# EAGLE library part K66F_GPIO_2X10 (library Parts)
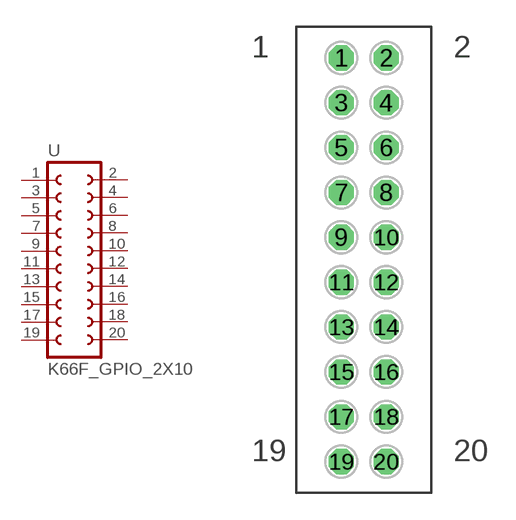
[diagram p4: symbol with the pads of K66F_GPIO_2X10; footprint K66F_GPIO_2X10]

Designator prefix -

## K66F_GPIO_2X10  [K66F_GPIO_2X10]
1  1
2  2
3  3
4  4
5  5
6  6  pas
7  7
8  8  pas
9  9
10  10  pas
11  11
12  12
13  13
14  14
15  15
16  16
17  17
18  18
19  19
20  20

## Footprint K66F_GPIO_2X10 (pad centres in mm)
FEMALE HEADER
drill 0.914 octagon: 1 -1.27,11.43; 2 1.27,11.43; 3 -1.27,8.89; 4 1.27,8.89; 5 -1.27,6.35; 6 1.27,6.35; 7 -1.27,3.81; 8 1.27,3.81; 9 -1.27,1.27; 10 1.27,1.27; 11 -1.27,-1.27; 12 1.27,-1.27; 13 -1.27,-3.81; 14 1.27,-3.81; 15 -1.27,-6.35; 16 1.27,-6.35; 17 -1.27,-8.89; 18 1.27,-8.89; 19 -1.27,-11.43; 20 1.27,-11.43